# EAGLE library part *112 (library digital)
74xx112: Dual JK flip-flop Negative-edge-triggered
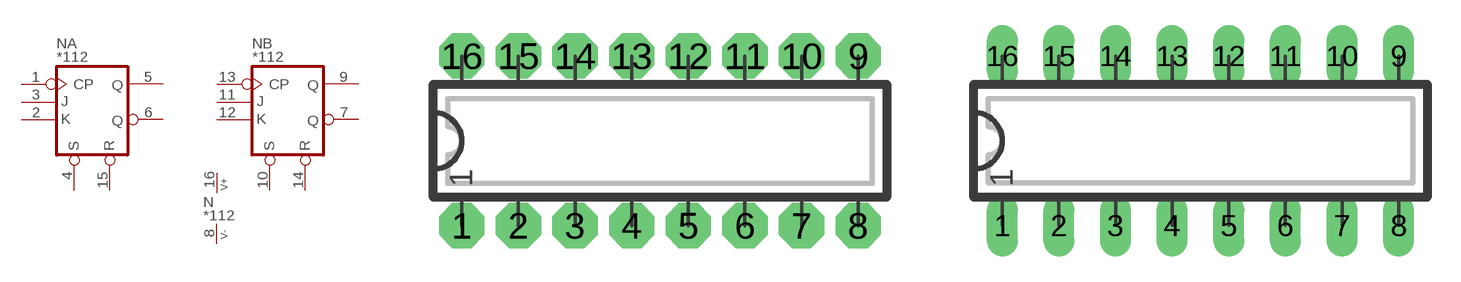
[diagram p7: symbol with the pads of DIP16N; footprints DIP16N, DIP16L]

Designator prefix N; gates A=JKFF_1 B=JKFF_1 P=V+-

## 74AC112N, 74ACT112N, 74ALS112N, 74AS112N, 74HC112N, 74LS112N, 74S112N  [DIP16N]
1  A:CP  in
2  A:K  in
3  A:J  in
4  A:S  in
5  A:Q  out
6  A:/Q  out
7  B:/Q  out
8  P:V-  pwr
9  B:Q  out
10  B:S  in
11  B:J  in
12  B:K  in
13  B:CP  in
14  B:R  in
15  A:R  in
16  P:V+  pwr

## 74AC112, 74ACT112, 74ALS112, 74AS112, 74HC112, 74LS112, 74S112  [DIP16L]
Pads as for DIP16N

## 74AC112L, 74ACT112L, 74ALS112L, 74AS112L, 74HC112L, 74LS112L, 74S112L  [DIP16L]
Pads as for DIP16N

## 74AC112R, 74ACT112R  [DIP16R]
Pads as for DIP16N

## 74HC112S, 74HCT112S  [SO16]
Pads as for DIP16N

## Footprint DIP16N (pad centres in mm)
DIP-16 Standard IC package, 16 pins
drill 0.813 pad 2.032 octagon: 1 0,0; 2 2.54,0; 3 5.08,0; 4 7.62,0; 5 10.16,0; 6 12.7,0; 7 15.24,0; 8 17.78,0; 9 17.78,7.62; 10 15.24,7.62; 11 12.7,7.62; 12 10.16,7.62; 13 7.62,7.62; 14 5.08,7.62; 15 2.54,7.62; 16 0,7.62

## Footprint DIP16L (pad centres in mm)
DIP-16, long pads Standard IC package, 16 pins
drill 0.813 pad 1.397 long: 1 0,0; 2 2.54,0; 3 5.08,0; 4 7.62,0; 5 10.16,0; 6 12.7,0; 7 15.24,0; 8 17.78,0; 9 17.78,7.62; 10 15.24,7.62; 11 12.7,7.62; 12 10.16,7.62; 13 7.62,7.62; 14 5.08,7.62; 15 2.54,7.62; 16 0,7.62

## Footprint DIP16R (pad centres in mm)
DIP-16, reduced pads Standard IC package, 16 pins
drill 0.813 pad 1.397 square: 1 0,0; 2 2.54,0; 3 5.08,0; 4 7.62,0; 5 10.16,0; 6 12.7,0; 7 15.24,0; 8 17.78,0; 9 17.78,7.62; 10 15.24,7.62; 11 12.7,7.62; 12 10.16,7.62; 13 7.62,7.62; 14 5.08,7.62; 15 2.54,7.62; 16 0,7.62

## Footprint SO16 (pad centres in mm)
SO-16, SMD SOIC IC package, 16 pins
smd 0.635 x 1.778: 1 -4.445,-2.857; 2 -3.175,-2.857; 3 -1.905,-2.857; 4 -0.635,-2.857; 5 0.635,-2.857; 6 1.905,-2.857; 7 3.175,-2.857; 8 4.445,-2.857; 9 4.445,2.857; 10 3.175,2.857; 11 1.905,2.857; 12 0.635,2.857; 13 -0.635,2.857; 14 -1.905,2.857; 15 -3.175,2.857; 16 -4.445,2.857